# EAGLE library part OKL-T3-W12 (library pandasat)
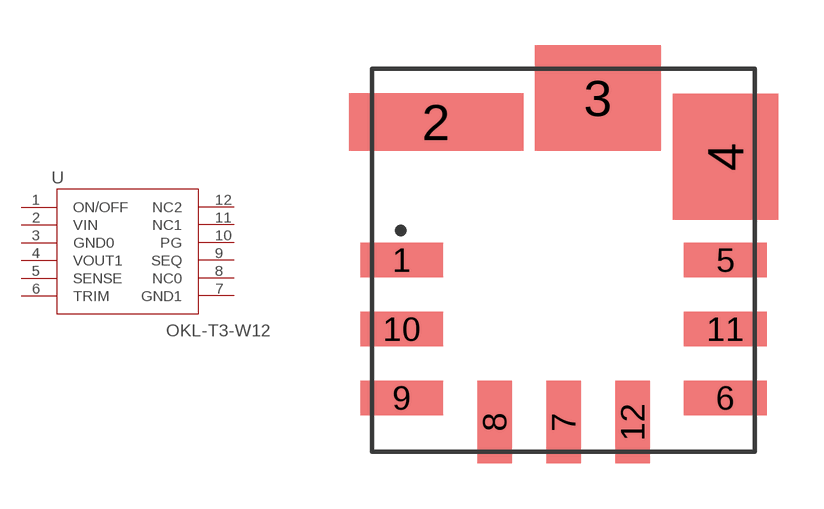
[diagram p1: symbol with the pads of OKL-T3-W12; footprint OKL-T3-W12]

Designator prefix U

## OKL-T3-W12  [OKL-T3-W12]
1  ON/OFF
2  VIN
3  GND0
4  VOUT1
5  SENSE
6  TRIM
7  GND1
8  NC0
9  SEQ
10  PG
11  NC1
12  NC2

## Footprint OKL-T3-W12 (pad centres in mm)
smd 2.75 x 1.15: 1 -5.37,0; 5 5.37,0; 6 5.37,-4.57; 9 -5.37,-4.57; 10 -5.37,-2.29; 11 5.37,-2.29
smd 5.78 x 1.905: 2 -4.23,4.57
smd 4.18 x 3.505: 3 1.14,5.37
smd 3.505 x 4.18: 4 5.37,3.43
smd 1.15 x 2.75: 7 0,-5.37; 8 -2.29,-5.37; 12 2.29,-5.37